# Altium schematic symbol library DS8500.SchLib: 1 symbol
Pins are listed as number, name and electrical type; pins without a type are passive.

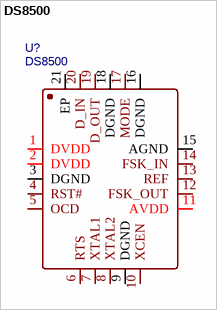
[diagram p0: symbol DS8500]

## DS8500
designator U?
HART调制解调器; Manufacturer: ADI(亚德诺); Manufacturer Part: DS8500-JND+T&R; Contributor: LCSC; Supplier: LCSC; Supplier Part: C709721; JLCPCB Part Class: Extended Part; spicePre: U; spiceSymbolName: DS8500-JND+T&amp;R
footprint QFN-20_L5.0-W5.0-P0.65-BL-EP
pins: 1 DVDD, 2 DVDD, 3 DGND, 4 RST#, 5 OCD, 6 RTS, 7 XTAL1, 8 XTAL2, 9 DGND, 10 XCEN, 11 AVDD, 12 FSK_OUT, 13 REF, 14 FSK_IN, 15 AGND, 16 DGND, 17 MODE, 18 DGND, 19 D_OUT, 20 D_IN, 21 EP